# Altium schematic symbol library SCH - OPAMP - INA241B1IDDFR.Schlib: 1 symbol
Pins are listed as number, name and electrical type; pins without a type are passive.

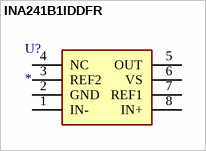
[diagram p0: symbol INA241B1IDDFR]

## INA241B1IDDFR
designator U?
Current Sense Amplifiers -5-V to 110-V bidirectional high-precision current sense amplifier with enhanced PWM rejection; Manufacturer_Name: Texas Instruments; Manufacturer_Part_Number: INA241B1IDDFR; Datasheet Link: https://www.ti.com/general/docs/suppproductinfo.tsp?distId=26&gotoUrl=https://www.ti.com/lit/gpn/ina241a; Mouser Part Number: 595-INA241B1IDDFR; Mouser Price/Stock: https://www.mouser.de/ProductDetail/Texas-Instruments/INA241B1IDDFR?qs=IPgv5n7u5Qb8VGovuCsC%2FQ%3D%3D; Arrow Part Number: INA241B1IDDFR; Arrow Price/Stock: https://www.arrow.com/en/products/ina241b1iddfr/texas-instruments?q=INA241B1IDDFR; Height: 1.1mm
pins: 1 IN-, 2 GND, 3 REF2, 4 NC, 5 OUT, 6 VS, 7 REF1, 8 IN+